# Altium footprint library DX4R005HJ5R2000.PcbLib: 1 footprints
Each footprint in its own frame and in the unit in brackets; x right, y up, seen from the top. Pads: shape width x height; smd on the part's side, far side on the other; paste and mask are expansions set on the pad; w line width, h text height; cw(c..) or ccw(c..) is an arc to the next point about the centre after c.
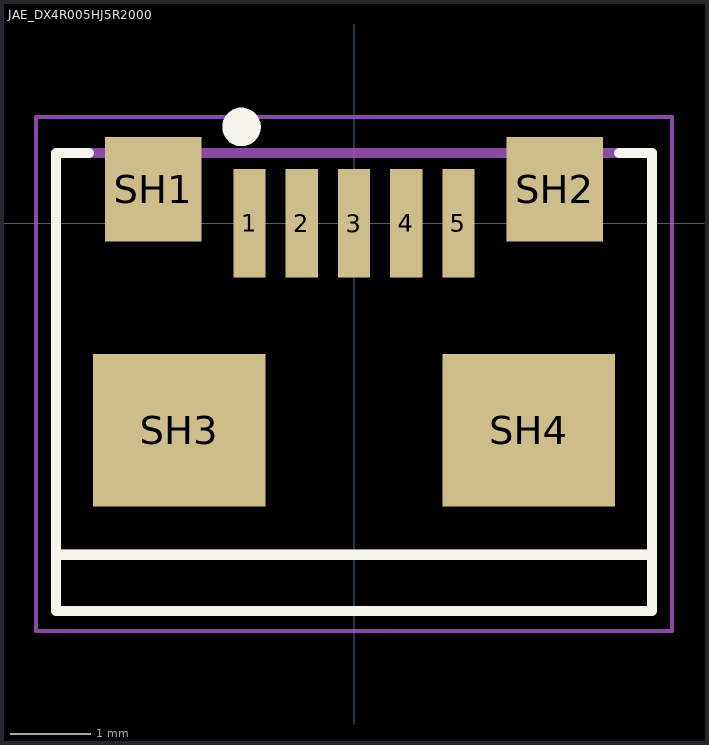
[diagram p0: the footprint, top view; thin cyan lines are the x and y axes]

## JAE_DX4R005HJ5R2000 [mm]
pads (9):
  rect 0.4x1.35 smd: 1(-1.3,0) 2(-0.65,0) 3(0,0) 4(0.65,0) 5(1.3,0)
  rect 1.2x1.3 smd: SH1(-2.5,0.425) SH2(2.5,0.425)
  rect 2.15x1.9 smd: SH3(-2.175,-2.575) SH4(2.175,-2.575)
Top Overlay:
  circle w0.24: c-1.4,1.2 r0.12
  lines w0.127: -3.71,-4.825 3.71,-4.825 ; -3.71,-4.8 -3.71,-4.125 ; -3.3,0.875 -3.71,0.875 -3.71,-4.125 ; 3.3,0.875 3.71,0.875 3.71,-4.125 ; 3.71,-4.8 3.71,-4.125 ; -3.71,-4.125 3.71,-4.125
Mechanical 13:
  lines w0.127: -3.71,-4.125 3.71,-4.125 3.71,0.875 -3.71,0.875 -3.71,-4.125
  text ">PCB edge" at -1.002,-4.108 h0.81
Mechanical 15:
  lines w0.05: -3.96,-5.075 3.96,-5.075 3.96,1.325 -3.96,1.325 -3.96,-5.075
3D body "DX4R005HJ5R2000--3DModel-STEP-56544.step": height 2.62, standoff 0.03, extent -3.71,-4.699 3.71,0.776